# Altium footprint library DIP8.PcbLib: 1 footprints
Each footprint in its own frame and in the unit in brackets; x right, y up, seen from the top. Pads: shape width x height; smd on the part's side, far side on the other; paste and mask are expansions set on the pad; w line width, h text height; cw(c..) or ccw(c..) is an arc to the next point about the centre after c.
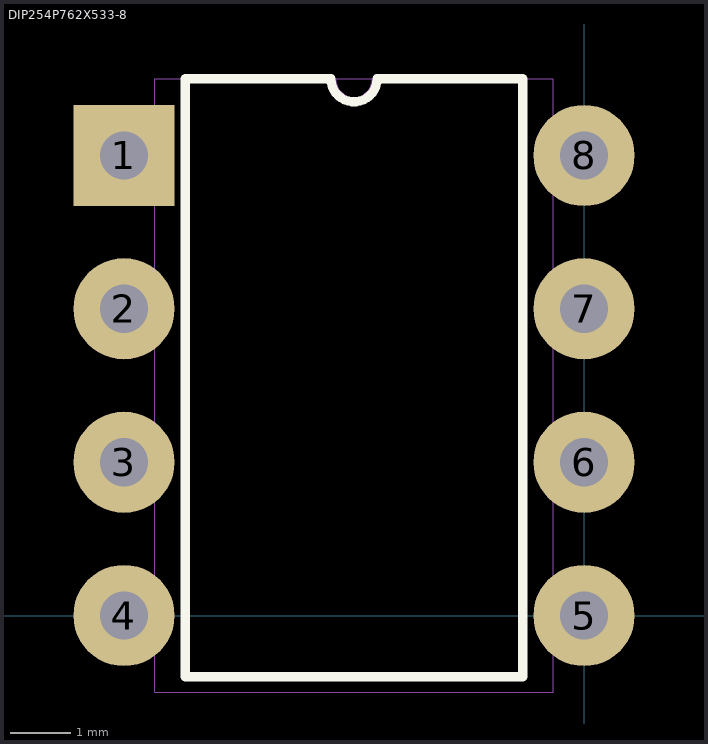
[diagram p0: the footprint, top view; thin cyan lines are the x and y axes]

## DIP254P762X533-8 [mil]
pads (8):
  rect 66x66 hole 31.5: 1(-300,300)
  round 66 hole 31.5: 2(-300,200) 3(-300,100) 4(-300,0) 5(0,0) 6(0,100) 7(0,200) 8(0,300)
Top Overlay:
  lines w6: -260,-40 -40,-40 -40,350 -135,350 cw(c-150,350) -165,350 -260,350 -260,-40
Mechanical 13:
  lines w0: -162,350 ccw(c-150,350) -138,350 ; -162,350 -280,350 -280,-50 -20,-50 -20,350 -138,350 ; -162,350 -138,350 ; -322,-22 -280,-22 -280,22 -322,22 -322,-22 ; -322,78 -280,78 -280,122 -322,122 -322,78 ; -322,178 -280,178 -280,222 -322,222 -322,178 ; -322,278 -280,278 -280,322 -322,322 -322,278 ; -20,-22 22,-22 22,22 -20,22 -20,-22 ; -20,78 22,78 22,122 -20,122 -20,78 ; -20,178 22,178 22,222 -20,222 -20,178 ; -20,278 22,278 22,322 -20,322 -20,278
3D body "DIP-8.stp": height 180, standoff -137.8, extent -305.5,-34.54 5.52,334.56